# Altium footprint library Housing, PAP-06V-S.PcbLib: 1 footprints
Each footprint in its own frame and in the unit in brackets; x right, y up, seen from the top. Pads: shape width x height; smd on the part's side, far side on the other; paste and mask are expansions set on the pad; w line width, h text height; cw(c..) or ccw(c..) is an arc to the next point about the centre after c.

## Housing, PAP-06V-S [mm] "Housing, PAP-06V-S"
3D body "JST - PA -1x6 - Through Hole, Side Entry - PAP-06V-S.step": height 5, standoff -0.8, extent -6.6,-3.8 7.4,4.2